# Altium integrated library 98401-101-30LF.IntLib: 1 symbol
Pins are listed as number, name and electrical type; pins without a type are passive.

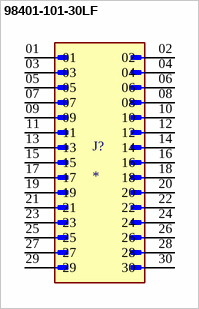
[diagram p0: symbol 98401-101-30LF]

## 98401-101-30LF
designator J?
MF: Amphenol ICC (FCI); MP: 98401-101-30LF; Package: None; Price: None; Value: *; Availability: Unavailable
footprint AMPHENOL_98401-101-30LF
pins: 01, 02, 03, 04, 05, 06, 07, 08, 09, 10, 11, 12, 13, 14, 15, 16, 17, 18, 19, 20, 21, 22, 23, 24, 25, 26, 27, 28, 29, 30